# EAGLE library part STM32L083-LQFP48 (library BHARADWAJ-STM32L083)
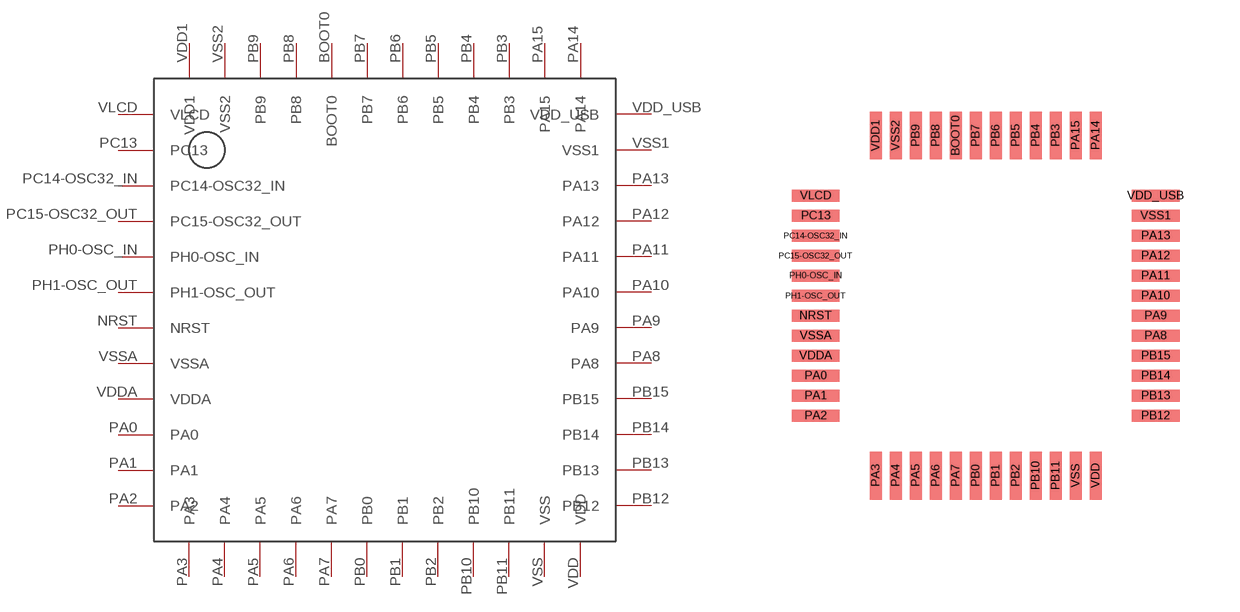
[diagram p0: symbol with the pads of LQFP_48; footprint LQFP_48]

Designator prefix -

## STM32L083-LQFP48  [LQFP_48]
BOOT0  BOOT0
NRST  NRST
PA0  PA0
PA1  PA1
PA2  PA2
PA3  PA3
PA4  PA4
PA5  PA5
PA6  PA6
PA7  PA7
PA8  PA8
PA9  PA9
PA10  PA10
PA11  PA11
PA12  PA12
PA13  PA13
PA14  PA14
PA15  PA15
PB0  PB0
PB1  PB1
PB2  PB2
PB3  PB3
PB4  PB4
PB5  PB5
PB6  PB6
PB7  PB7
PB8  PB8
PB9  PB9
PB10  PB10
PB11  PB11
PB12  PB12
PB13  PB13
PB14  PB14
PB15  PB15
PC13  PC13
PC14-OSC32_IN  PC14-OSC32_IN
PC15-OSC32_OUT  PC15-OSC32_OUT
PH0-OSC_IN  PH0-OSC_IN
PH1-OSC_OUT  PH1-OSC_OUT
VDD  VDD
VDD1  VDD1
VDD_USB  VDD_USB
VDDA  VDDA
VLCD  VLCD
VSS  VSS
VSS1  VSS1
VSS2  VSS2
VSSA  VSSA

## Footprint LQFP_48 (pad centres in mm)
smd 0.3 x 1.2: BOOT0 -0.65,4.4; PA3 -2.65,-4.1; PA4 -2.15,-4.1; PA5 -1.65,-4.1; PA6 -1.15,-4.1; PA7 -0.65,-4.1; PA14 2.85,4.4; PA15 2.35,4.4; PB0 -0.15,-4.1; PB1 0.35,-4.1; PB2 0.85,-4.1; PB3 1.85,4.4; PB4 1.35,4.4; PB5 0.85,4.4; PB6 0.35,4.4; PB7 -0.15,4.4; PB8 -1.15,4.4; PB9 -1.65,4.4; PB10 1.35,-4.1; PB11 1.85,-4.1; VDD 2.85,-4.1; VDD1 -2.65,4.4; VSS 2.35,-4.1; VSS2 -2.15,4.4
smd 1.2 x 0.3: NRST -4.15,-0.1; PA0 -4.15,-1.6; PA1 -4.15,-2.1; PA2 -4.15,-2.6; PA8 4.35,-0.6; PA9 4.35,-0.1; PA10 4.35,0.4; PA11 4.35,0.9; PA12 4.35,1.4; PA13 4.35,1.9; PB12 4.35,-2.6; PB13 4.35,-2.1; PB14 4.35,-1.6; PB15 4.35,-1.1; PC13 -4.15,2.4; PC14-OSC32_IN -4.15,1.9; PC15-OSC32_OUT -4.15,1.4; PH0-OSC_IN -4.15,0.9; PH1-OSC_OUT -4.15,0.4; VDD_USB 4.35,2.9; VDDA -4.15,-1.1; VLCD -4.15,2.9; VSS1 4.35,2.4; VSSA -4.15,-0.6